# EAGLE library part MSP430FR2033 (library MSP430FR203x)
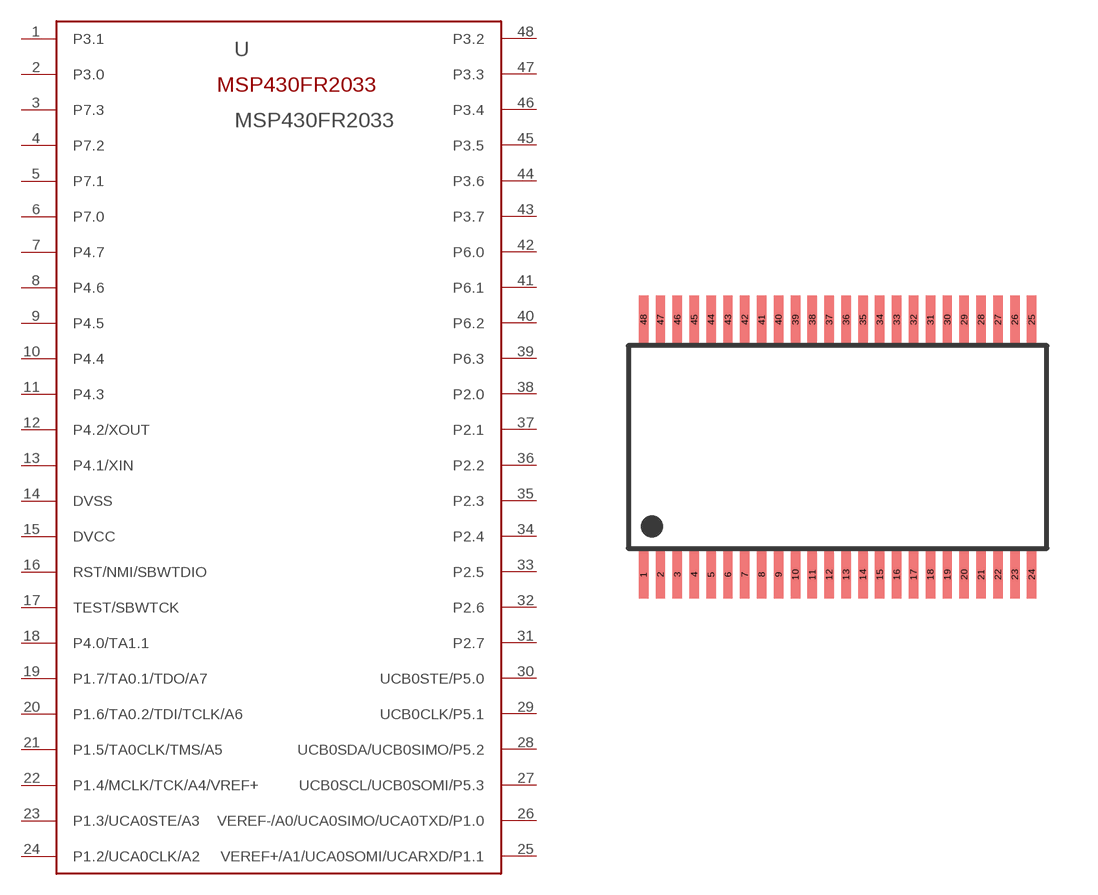
[diagram p0: symbol with the pads of TSSOP-48; footprint TSSOP-48]

Designator prefix -

## MSP430FR2033  [TSSOP-48]
1  P3.1
2  P3.0
3  P7.3
4  P7.2
5  P7.1
6  P7.0
7  P4.7
8  P4.6
9  P4.5
10  P4.4
11  P4.3
12  P4.2/XOUT
13  P4.1/XIN
14  DVSS
15  DVCC
16  RST/NMI/SBWTDIO
17  TEST/SBWTCK
18  P4.0/TA1.1
19  P1.7/TA0.1/TDO/A7
20  P1.6/TA0.2/TDI/TCLK/A6
21  P1.5/TA0CLK/TMS/A5
22  P1.4/MCLK/TCK/A4/VREF+
23  P1.3/UCA0STE/A3
24  P1.2/UCA0CLK/A2
25  VEREF+/A1/UCA0SOMI/UCARXD/P1.1
26  VEREF-/A0/UCA0SIMO/UCA0TXD/P1.0
27  UCB0SCL/UCB0SOMI/P5.3
28  UCB0SDA/UCB0SIMO/P5.2
29  UCB0CLK/P5.1
30  UCB0STE/P5.0
31  P2.7
32  P2.6
33  P2.5
34  P2.4
35  P2.3
36  P2.2
37  P2.1
38  P2.0
39  P6.3
40  P6.2
41  P6.1
42  P6.0
43  P3.7
44  P3.6
45  P3.5
46  P3.4
47  P3.3
48  P3.2

## Footprint TSSOP-48 (pad centres in mm)
smd 0.28 x 1.43: 1 -5.49,-3.794; 2 -4.99,-3.794; 3 -4.49,-3.794; 4 -3.99,-3.794; 5 -3.49,-3.794; 6 -2.99,-3.794; 7 -2.49,-3.794; 8 -1.99,-3.794; 9 -1.49,-3.794; 10 -0.99,-3.794; 11 -0.49,-3.794; 12 0.01,-3.794; 13 0.51,-3.794; 14 1.01,-3.794; 15 1.51,-3.794; 16 2.01,-3.794; 17 2.51,-3.794; 18 3.01,-3.794; 19 3.51,-3.794; 20 4.01,-3.794; 21 4.51,-3.794; 22 5.01,-3.794; 23 5.51,-3.794; 24 6.01,-3.794; 25 6.01,3.756; 26 5.51,3.756; 27 5.01,3.756; 28 4.51,3.756; 29 4.01,3.756; 30 3.51,3.756; 31 3.01,3.756; 32 2.51,3.756; 33 2.01,3.756; 34 1.51,3.756; 35 1.01,3.756; 36 0.51,3.756; 37 0.01,3.756; 38 -0.49,3.756; 39 -0.99,3.756; 40 -1.49,3.756; 41 -1.99,3.756; 42 -2.49,3.756; 43 -2.99,3.756; 44 -3.49,3.756; 45 -3.99,3.756; 46 -4.49,3.756; 47 -4.99,3.756; 48 -5.49,3.756